# Altium footprint library STM32F103C8T6-4PCB库文件.PcbLib: 1 footprints
Each footprint in its own frame and in the unit in brackets; x right, y up, seen from the top. Pads: shape width x height; smd on the part's side, far side on the other; paste and mask are expansions set on the pad; w line width, h text height; cw(c..) or ccw(c..) is an arc to the next point about the centre after c.
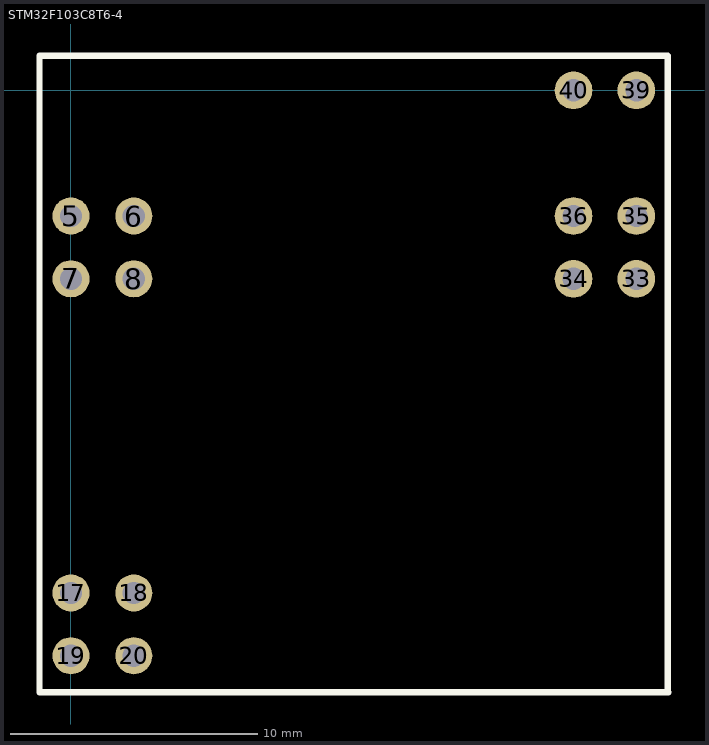
[diagram p0: the footprint, top view; thin cyan lines are the x and y axes]

## STM32F103C8T6-4 [mm]
pads (14):
  round 1.5 hole 0.9: 5(0,-5.08) 6(2.54,-5.08) 7(0,-7.62) 8(2.54,-7.62) 17(0,-20.32) 18(2.54,-20.32) 19(0,-22.86) 20(2.54,-22.86)
  round 1.524 hole 0.899: 33(22.86,-7.62) 34(20.32,-7.62) 35(22.86,-5.08) 36(20.32,-5.08) 39(22.86,0) 40(20.32,0)
Top Overlay:
  lines w0.254: 24.13,-24.333 24.13,1.397 -1.27,1.397 -1.27,-24.333 24.155,-24.333